# Altium footprint library Trans_pcb.PcbLib: 10 footprints
Each footprint in its own frame and in the unit in brackets; x right, y up, seen from the top. Pads: shape width x height; smd on the part's side, far side on the other; paste and mask are expansions set on the pad; w line width, h text height; cw(c..) or ccw(c..) is an arc to the next point about the centre after c.
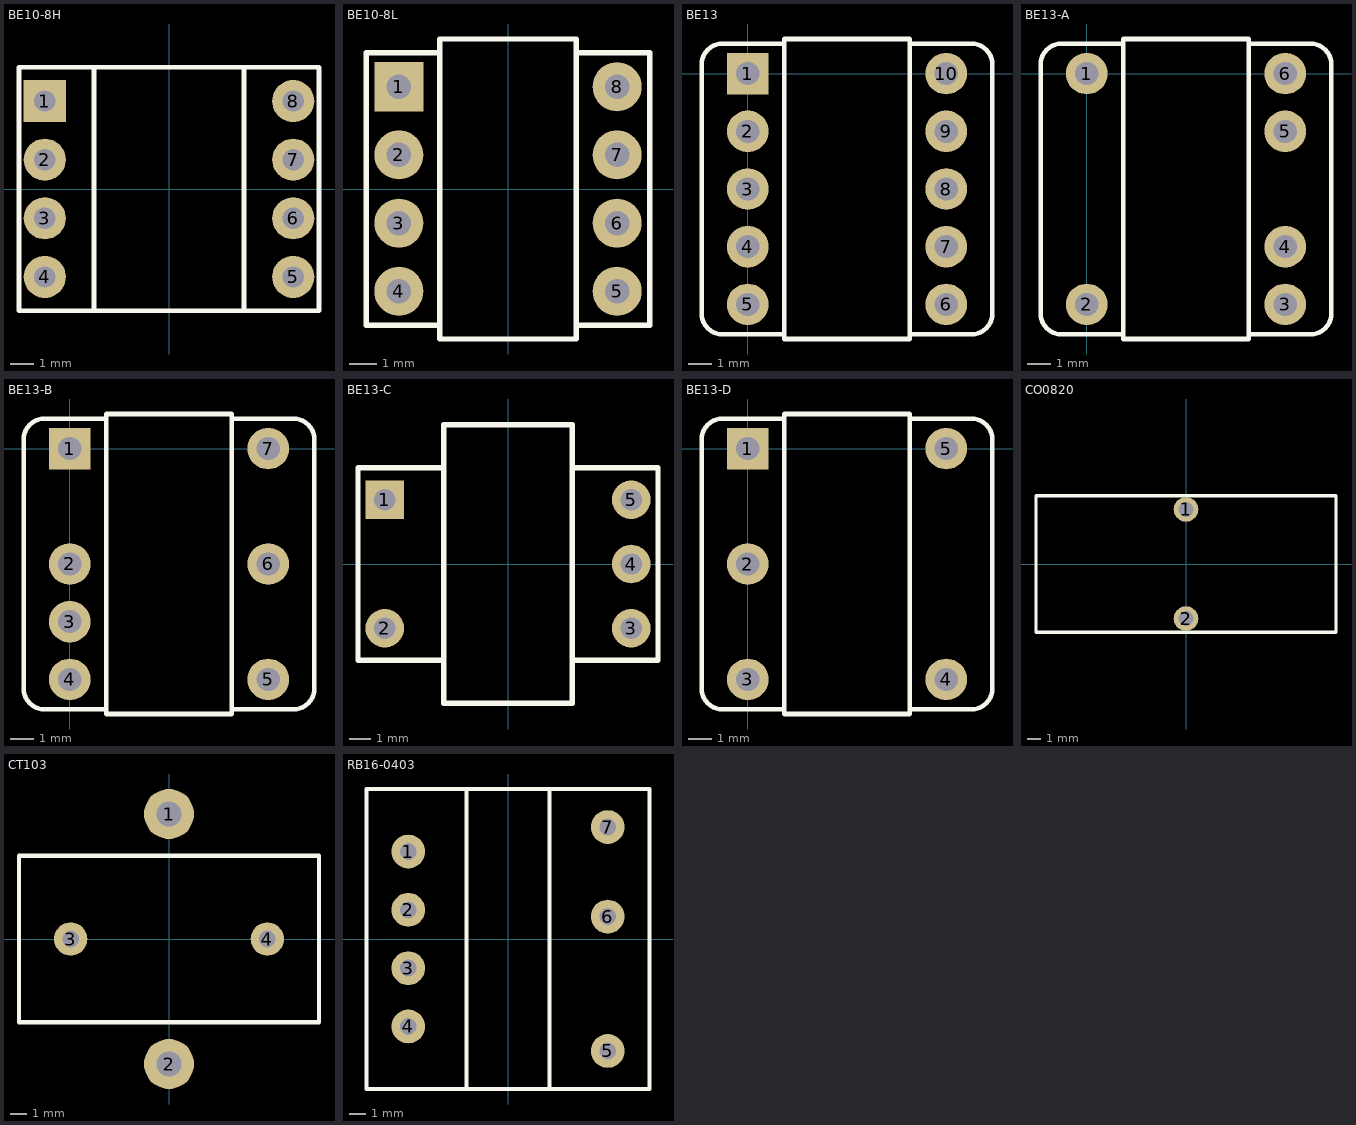
[diagram p0: the footprints below, top view; thin cyan lines are the x and y axes]

## BE10-8H [mm] "EE10 4+4卧式"
pads (8):
  rect 1.8x1.8 hole 0.9: 1(-5.3,3.75)
  round 1.8 hole 0.9: 2(-5.3,1.25) 3(-5.3,-1.25) 4(-5.3,-3.75) 5(5.3,-3.75) 6(5.3,-1.25) 7(5.3,1.25) 8(5.3,3.75)
TopOverlay:
  lines w0.2: -3.2,-5.2 -3.2,5.2 ; 3.2,-5.2 3.2,5.2 ; -6.4,-5.2 6.4,-5.2 6.4,5.2 -6.4,5.2 -6.4,-5.2
3D body "User Library-EE1-H.STEP": height 10.7, standoff -3.8, extent -6.25,-5.41 6.25,5.41

## BE10-8L [mm] "EE10 4+4立式"
pads (8):
  rect 1.8x1.8 hole 0.9: 1(-4,3.75)
  round 1.8 hole 0.9: 2(-4,1.25) 3(-4,-1.25) 4(-4,-3.75) 5(4,-3.75) 6(4,-1.25) 7(4,1.25) 8(4,3.75)
TopOverlay:
  lines w0.2: -2.5,-5 -5.2,-5 -5.2,5 -2.5,5 ; 2.5,-5 5.2,-5 5.2,5 2.5,5 ; -2.5,-5.5 2.5,-5.5 2.5,5.5 -2.5,5.5 -2.5,-5.5

## BE13 [mm]
pads (10):
  rect 1.8x1.8 hole 1: 1(0,0)
  round 1.8 hole 1: 2(0,-2.5) 3(0,-5) 4(0,-7.5) 5(0,-10) 6(8.6,-10) 7(8.6,-7.5) 8(8.6,-5) 9(8.6,-2.5) 10(8.6,0)
TopOverlay:
  lines w0.2: 1.485,1.3 -1.1,1.3 ccw(c-1.1,0.4) -2,0.4 -2,-10.4 ccw(c-1.1,-10.4) -1.1,-11.3 1.585,-11.3 ; 7.015,-11.3 9.7,-11.3 ccw(c9.7,-10.4) 10.6,-10.4 10.6,0.4 ccw(c9.7,0.4) 9.7,1.3 7.015,1.3 ; 1.585,-11.5 7.015,-11.5 7.015,1.5 1.585,1.5 1.585,-11.5

## BE13-A [mm]
pads (6):
  round 1.8 hole 1: 1(0,0) 2(0,-10) 3(8.6,-10) 4(8.6,-7.5) 5(8.6,-2.5) 6(8.6,0)
TopOverlay:
  lines w0.2: 1.485,1.3 -1.1,1.3 ccw(c-1.1,0.4) -2,0.4 -2,-10.4 ccw(c-1.1,-10.4) -1.1,-11.3 1.585,-11.3 ; 7.015,-11.3 9.7,-11.3 ccw(c9.7,-10.4) 10.6,-10.4 10.6,0.4 ccw(c9.7,0.4) 9.7,1.3 7.015,1.3 ; 1.585,-11.5 7.015,-11.5 7.015,1.5 1.585,1.5 1.585,-11.5

## BE13-B [mm]
pads (7):
  rect 1.8x1.8 hole 1: 1(0,0)
  round 1.8 hole 1: 2(0,-5) 3(0,-7.5) 4(0,-10) 5(8.6,-10) 6(8.6,-5) 7(8.6,0)
TopOverlay:
  lines w0.2: 1.485,1.3 -1.1,1.3 ccw(c-1.1,0.4) -2,0.4 -2,-10.4 ccw(c-1.1,-10.4) -1.1,-11.3 1.585,-11.3 ; 7.015,-11.3 9.7,-11.3 ccw(c9.7,-10.4) 10.6,-10.4 10.6,0.4 ccw(c9.7,0.4) 9.7,1.3 7.015,1.3 ; 1.585,-11.5 1.585,1.5 7.015,1.5 7.015,-11.5 1.585,-11.5

## BE13-C [mm]
pads (5):
  rect 1.8x1.8 hole 1: 1(-5.75,3)
  round 1.8 hole 1: 2(-5.75,-3) 3(5.75,-3) 4(5.75,0) 5(5.75,3)
TopOverlay:
  lines w0.254: -3,-4.5 -7,-4.5 -7,4.5 -3,4.5 ; 3,-4.5 7,-4.5 7,4.5 3,4.5 ; -3,-6.5 -3,6.5 3,6.5 3,-6.5 -3,-6.5

## BE13-D [mm]
pads (5):
  rect 1.8x1.8 hole 1: 1(0,0)
  round 1.8 hole 1: 2(0,-5) 3(0,-10) 4(8.6,-10) 5(8.6,0)
TopOverlay:
  lines w0.2: 1.485,1.3 -1.1,1.3 ccw(c-1.1,0.4) -2,0.4 -2,-10.4 ccw(c-1.1,-10.4) -1.1,-11.3 1.585,-11.3 ; 7.015,-11.3 9.7,-11.3 ccw(c9.7,-10.4) 10.6,-10.4 10.6,0.4 ccw(c9.7,0.4) 9.7,1.3 7.015,1.3 ; 1.585,-11.5 1.585,1.5 7.015,1.5 7.015,-11.5 1.585,-11.5
3D body "User Library-EE13-T304.STEP": height 11.88, standoff -4.67, extent -1.9,-11.61 10.5,1.61

## CO0820 [mm]
pads (2):
  round 1.8 hole 1.1: 1(0,4) 2(0,-4)
TopOverlay:
  lines w0.254: -11,-5 11,-5 11,5 -11,5 -11,-5

## CT103 [mil]
pads (4):
  round 120 hole 60: 1(0,300) 2(0,-300)
  round 80 hole 40: 3(-236,0) 4(236,0)
TopOverlay:
  lines w10: -360,-200 -360,200 360,200 360,-200 -360,-200

## RB16-0403 [mil]
pads (7):
  round 80 hole 40: 1(-236,207) 2(-236,69) 3(-236,-69) 4(-236,-207) 5(236,-265) 6(236,53) 7(236,265)
TopOverlay:
  lines w10: -98,-355 -98,355 ; 98,-355 98,355 ; -335,-355 335,-355 335,355 -335,355 -335,-355